# EAGLE library part RMLV0416EGSB-4S2HA1 (library ultralibrarian)
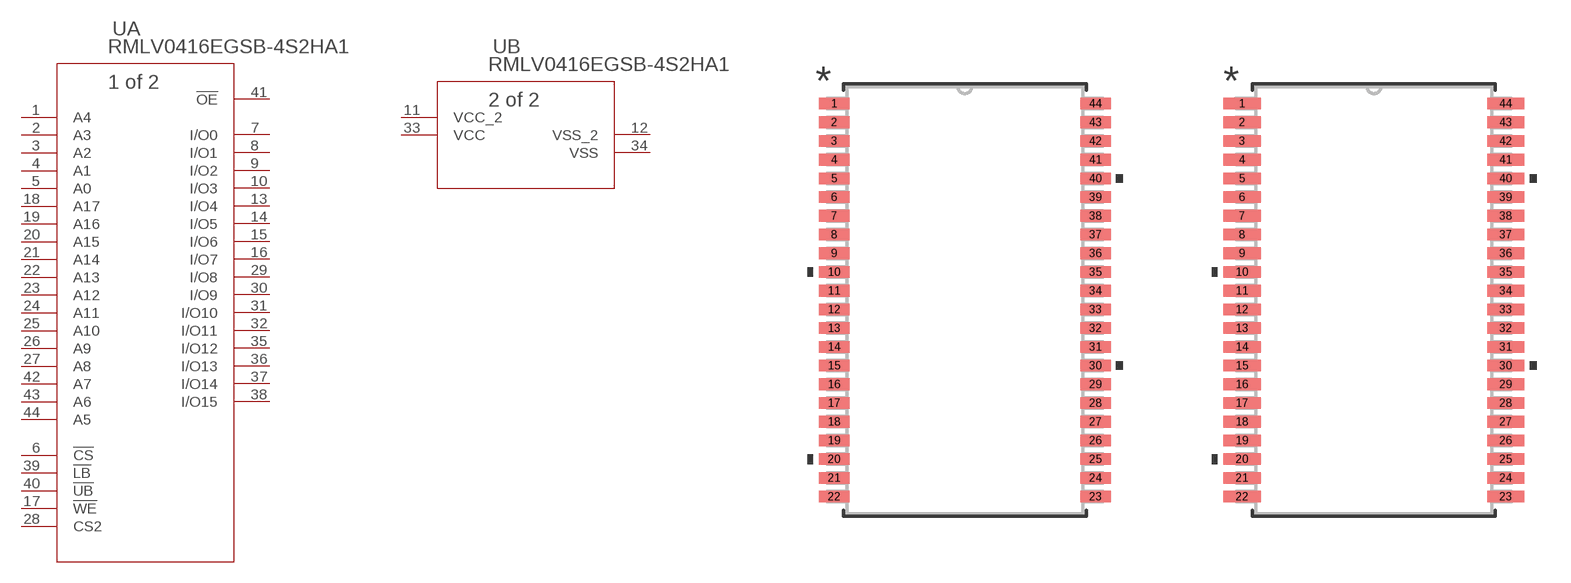
[diagram p0: symbol with the pads of PTSB0044GG-A_REN; footprints PTSB0044GG-A_REN, PTSB0044GG-A_REN-M]

Designator prefix U; gates A=RMLV0416EGSB-4S2HA1 B=RMLV0416EGSB-4S2HA1_A

## RMLV0416EGSB-4S2HA1 (BUILT_BY: EMA_Jessica; COPYRIGHT: Copyright (C) 2018 Accelerated Designs. All rights reserved; MANUFACTURER_PART_NUMBER: RMLV0416EGSB-4S2#HA1; SOURCELIBRARY: Renesas_2019-10-17_1; VENDOR: Renesas Electronics)  [PTSB0044GG-A_REN]
1  A:A4  in
2  A:A3  in
3  A:A2  in
4  A:A1  in
5  A:A0  in
6  A:!CS  pas
7  A:I/O0
8  A:I/O1
9  A:I/O2
10  A:I/O3
11  B:VCC_2  pwr
12  B:VSS_2  pwr
13  A:I/O4
14  A:I/O5
15  A:I/O6
16  A:I/O7
17  A:!WE  pas
18  A:A17  in
19  A:A16  in
20  A:A15  in
21  A:A14  in
22  A:A13  in
23  A:A12  in
24  A:A11  in
25  A:A10  in
26  A:A9  in
27  A:A8  in
28  A:CS2  pas
29  A:I/O8
30  A:I/O9
31  A:I/O10
32  A:I/O11
33  B:VCC  pwr
34  B:VSS  pwr
35  A:I/O12
36  A:I/O13
37  A:I/O14
38  A:I/O15
39  A:!LB  pas
40  A:!UB  pas
41  A:!OE  out
42  A:A7  in
43  A:A6  in
44  A:A5  in

## RMLV0416EGSB-4S2HA1PTSB0044GG-A_REN-M (BUILT_BY: EMA_Jessica; COPYRIGHT: Copyright (C) 2018 Accelerated Designs. All rights reserved; MANUFACTURER_PART_NUMBER: RMLV0416EGSB-4S2#HA1; SOURCELIBRARY: Renesas_2019-10-17_1; VENDOR: Renesas Electronics)  [PTSB0044GG-A_REN-M]
Pads as for PTSB0044GG-A_REN

## RMLV0416EGSB-4S2HA1PTSB0044GG-A_REN-L (BUILT_BY: EMA_Jessica; COPYRIGHT: Copyright (C) 2018 Accelerated Designs. All rights reserved; MANUFACTURER_PART_NUMBER: RMLV0416EGSB-4S2#HA1; SOURCELIBRARY: Renesas_2019-10-17_1; VENDOR: Renesas Electronics)  [PTSB0044GG-A_REN-L]
Pads as for PTSB0044GG-A_REN

## Footprint PTSB0044GG-A_REN (pad centres in mm)
smd 1.321 x 0.508: 1 -5.677,8.534; 2 -5.677,7.722; 3 -5.677,6.909; 4 -5.677,6.096; 5 -5.677,5.283; 6 -5.677,4.47; 7 -5.677,3.658; 8 -5.677,2.845; 9 -5.677,2.032; 10 -5.677,1.219; 11 -5.677,0.406; 12 -5.677,-0.406; 13 -5.677,-1.219; 14 -5.677,-2.032; 15 -5.677,-2.845; 16 -5.677,-3.658; 17 -5.677,-4.47; 18 -5.677,-5.283; 19 -5.677,-6.096; 20 -5.677,-6.909; 21 -5.677,-7.722; 22 -5.677,-8.534; 23 5.677,-8.534; 24 5.677,-7.722; 25 5.677,-6.909; 26 5.677,-6.096; 27 5.677,-5.283; 28 5.677,-4.47; 29 5.677,-3.658; 30 5.677,-2.845; 31 5.677,-2.032; 32 5.677,-1.219; 33 5.677,-0.406; 34 5.677,0.406; 35 5.677,1.219; 36 5.677,2.032; 37 5.677,2.845; 38 5.677,3.658; 39 5.677,4.47; 40 5.677,5.283; 41 5.677,6.096; 42 5.677,6.909; 43 5.677,7.722; 44 5.677,8.534

## Footprint PTSB0044GG-A_REN-M (pad centres in mm)
smd 1.626 x 0.508: 1 -5.728,8.534; 2 -5.728,7.722; 3 -5.728,6.909; 4 -5.728,6.096; 5 -5.728,5.283; 6 -5.728,4.47; 7 -5.728,3.658; 8 -5.728,2.845; 9 -5.728,2.032; 10 -5.728,1.219; 11 -5.728,0.406; 12 -5.728,-0.406; 13 -5.728,-1.219; 14 -5.728,-2.032; 15 -5.728,-2.845; 16 -5.728,-3.658; 17 -5.728,-4.47; 18 -5.728,-5.283; 19 -5.728,-6.096; 20 -5.728,-6.909; 21 -5.728,-7.722; 22 -5.728,-8.534; 23 5.728,-8.534; 24 5.728,-7.722; 25 5.728,-6.909; 26 5.728,-6.096; 27 5.728,-5.283; 28 5.728,-4.47; 29 5.728,-3.658; 30 5.728,-2.845; 31 5.728,-2.032; 32 5.728,-1.219; 33 5.728,-0.406; 34 5.728,0.406; 35 5.728,1.219; 36 5.728,2.032; 37 5.728,2.845; 38 5.728,3.658; 39 5.728,4.47; 40 5.728,5.283; 41 5.728,6.096; 42 5.728,6.909; 43 5.728,7.722; 44 5.728,8.534

## Footprint PTSB0044GG-A_REN-L (pad centres in mm)
smd 1.016 x 0.457: 1 -5.626,8.534; 2 -5.626,7.722; 3 -5.626,6.909; 4 -5.626,6.096; 5 -5.626,5.283; 6 -5.626,4.47; 7 -5.626,3.658; 8 -5.626,2.845; 9 -5.626,2.032; 10 -5.626,1.219; 11 -5.626,0.406; 12 -5.626,-0.406; 13 -5.626,-1.219; 14 -5.626,-2.032; 15 -5.626,-2.845; 16 -5.626,-3.658; 17 -5.626,-4.47; 18 -5.626,-5.283; 19 -5.626,-6.096; 20 -5.626,-6.909; 21 -5.626,-7.722; 22 -5.626,-8.534; 23 5.626,-8.534; 24 5.626,-7.722; 25 5.626,-6.909; 26 5.626,-6.096; 27 5.626,-5.283; 28 5.626,-4.47; 29 5.626,-3.658; 30 5.626,-2.845; 31 5.626,-2.032; 32 5.626,-1.219; 33 5.626,-0.406; 34 5.626,0.406; 35 5.626,1.219; 36 5.626,2.032; 37 5.626,2.845; 38 5.626,3.658; 39 5.626,4.47; 40 5.626,5.283; 41 5.626,6.096; 42 5.626,6.909; 43 5.626,7.722; 44 5.626,8.534